# EAGLE library part PA2002NL (library utesla)
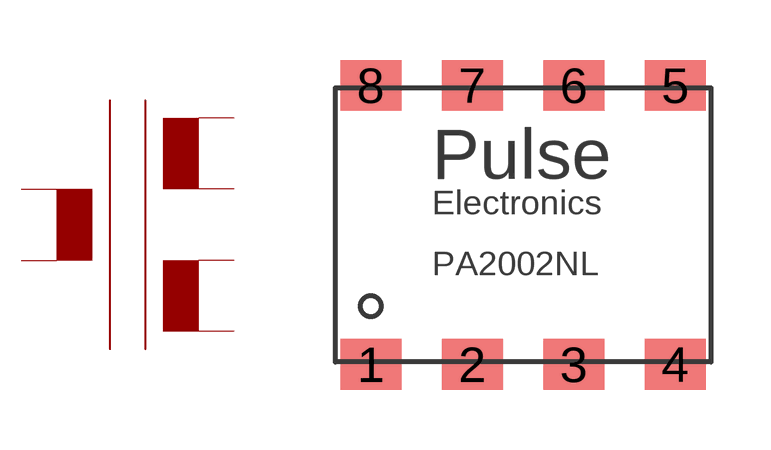
[diagram p3: symbol with the pads of SMT-GDT-LARGE; footprint SMT-GDT-LARGE]

Designator prefix -

## PA2002NL  [SMT-GDT-LARGE]
1  PRIA  in
3  SEC1A  out
4  SEC2A  out
5  SEC2B  out
6  SEC1B  out
8  PRIB  in

## Footprint SMT-GDT-LARGE (pad centres in mm)
smd 1.524 x 1.27: 1 -3.81,-3.493; 2 -1.27,-3.493; 3 1.27,-3.493; 4 3.81,-3.493; 5 3.81,3.493; 6 1.27,3.493; 7 -1.27,3.493; 8 -3.81,3.493